# EAGLE library part LM43601PWPR (library LM43601PWPR)
SIMPLE SWITCHER 3.5V to 36V, 1A Synchronous Step-Down Voltage Converter Source: Datasheet <http://www.ti.com/lit/gpn/lm43601>
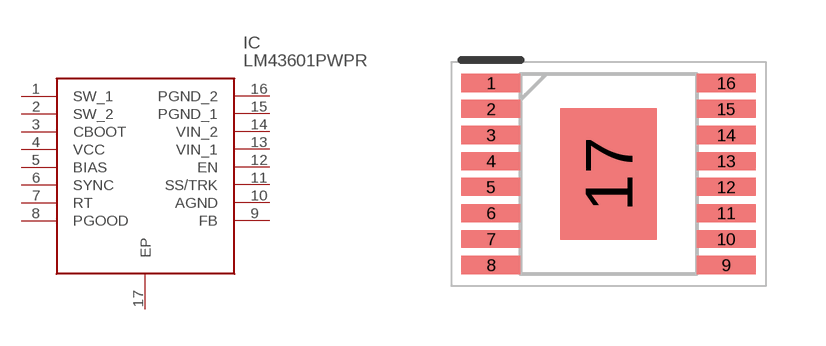
[diagram p0: symbol with the pads of SOP65P640X120-17N; footprint SOP65P640X120-17N]

Designator prefix IC

## LM43601PWPR (Arrow_Part_Number: LM43601PWPR; Arrow_Price-Stock: https://www.arrow.com/en/products/lm43601pwpr/texas-instruments; Description: SIMPLE SWITCHER 3.5V to 36V, 1A Synchronous Step-Down Voltage Converter; Height: 1.2mm; Manufacturer_Name: Texas Instruments; Manufacturer_Part_Number: LM43601PWPR; Mouser_Part_Number: 595-LM43601PWPR; Mouser_Price-Stock: https://www.mouser.co.uk/ProductDetail/Texas-Instruments/LM43601PWPR?qs=gvhpkjpQEVT9SCzxqPBiOA%3D%3D)  [SOP65P640X120-17N]
1  SW_1
2  SW_2
3  CBOOT
4  VCC
5  BIAS
6  SYNC
7  RT
8  PGOOD
9  FB
10  AGND
11  SS/TRK
12  EN
13  VIN_1
14  VIN_2
15  PGND_1
16  PGND_2
17  EP

## Footprint SOP65P640X120-17N (pad centres in mm)
PWP0016G
smd 1.475 x 0.45: 1 -2.938,2.275; 2 -2.938,1.625; 3 -2.938,0.975; 4 -2.938,0.325; 5 -2.938,-0.325; 6 -2.938,-0.975; 7 -2.938,-1.625; 8 -2.938,-2.275; 9 2.938,-2.275; 10 2.938,-1.625; 11 2.938,-0.975; 12 2.938,-0.325; 13 2.938,0.325; 14 2.938,0.975; 15 2.938,1.625; 16 2.938,2.275
smd 2.41 x 3.29: 17 0,0